# Altium schematic symbol library Schlib.SchLib: 11 symbols
Pins are listed as number, name and electrical type; pins without a type are passive.

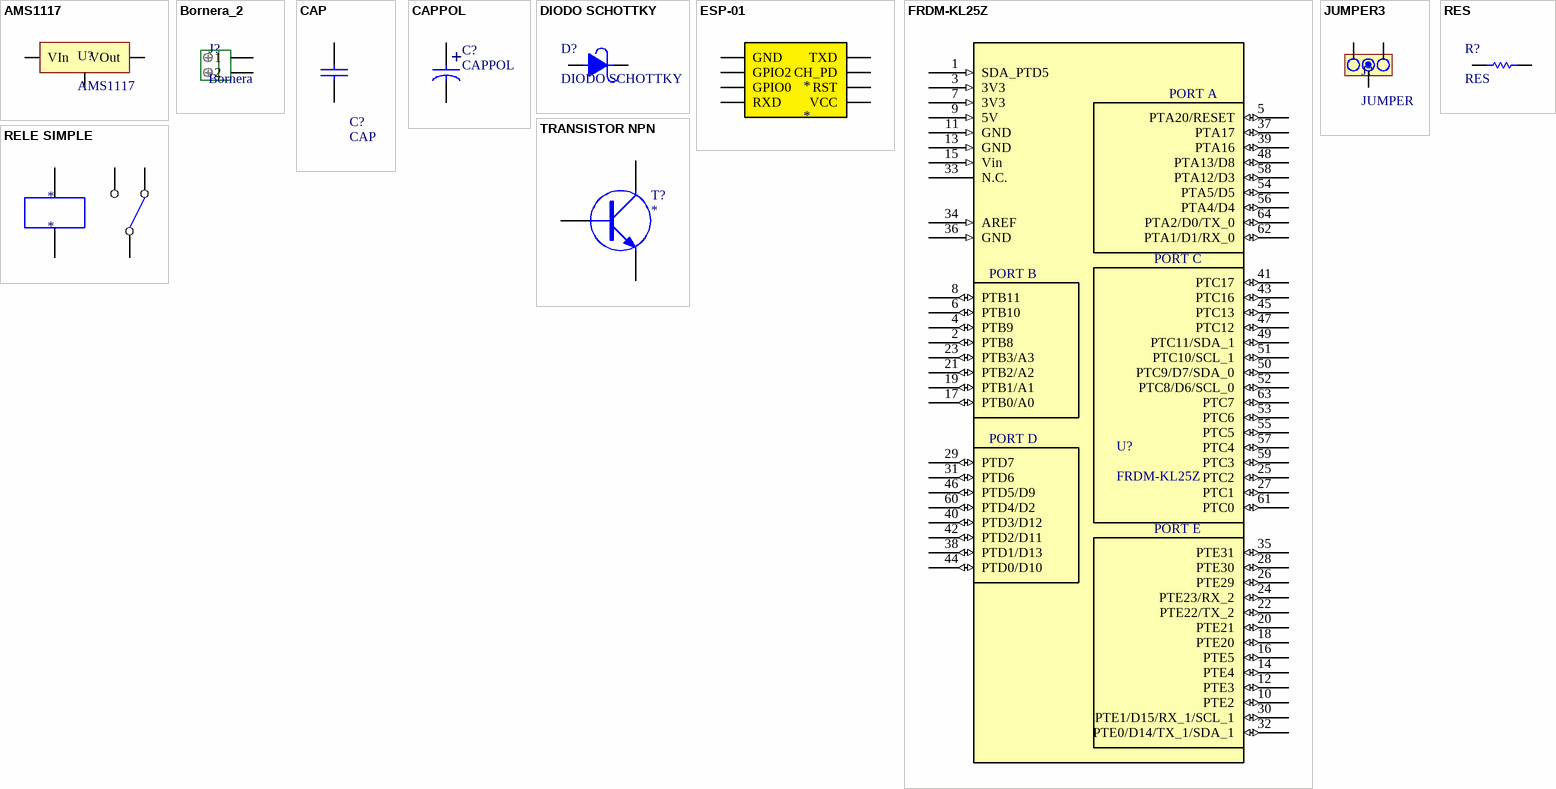
[diagram p0: symbols AMS1117 to TRANSISTOR NPN]

## AMS1117
designator U?
footprint AMS1117 (SOT223, 4-Leads, Body 6,50x7,00mm (avg), Pitch 2,30mm, IPC Medium Density)
pins: 1 VIn, 2 GND, 3 VOut

## Bornera_2
designator J?, comment Bornera
Bornera de 2 pines; Autor: Guido Spataro; Datasheet: Libebal; Fecha: 07/04/19
footprint BORNERA2 (Bornera con Tornillos 5mm separaci�n)
pins: 1, 2

## CAP
designator C?
Autor: Guido Spataro; Data: Libebal; Fecha: 07/04/19
footprint 0805 (Pasivo 0805)
footprint 1206 (Pasivo 1206)
pins: 1, 2

## CAPPOL
designator C?
Cap polarizado
footprint CAP100RP (Body diameter 5mm)
footprint CAP200RP2 (Body Diameter 12.5mm)
footprint CAP200RP2 HORIZONTAL (Body Diameter 12.5mm)
footprint Capol (Body diameter 6.5mm)
pins: 1, 2
text: +

## DIODO SCHOTTKY
designator D?
Diodo; Autor: Guido Spataro; DAta: https://assets.nexperia.com/documents/outline-drawing/SOD123.pdf; Fecha: 07/04/19
footprint Diodo (SODFL, 2-Leads, Body 1,60x3,60mm, IPC Medium Density)
pins: 1, 2

## ESP-01
designator *
footprint ESP-01
pins: 1 GND, 2 GPIO2, 3 GPIO0, 4 RXD, 5 TXD, 6 CH_PD, 7 RST, 8 VCC

## FRDM-KL25Z
designator U?
Autor: Guido Spataro; data: https://www.nxp.com/docs/en/data-sheet/MC9S08SH8.pdf; Fecha: 07/04/19
footprint MICRO
pins: 1 SDA_PTD5 (in), 2 PTB8 (io), 3 3V3 (in), 4 PTB9 (io), 5 PTA20/RESET (io), 6 PTB10 (io), 7 3V3 (in), 8 PTB11 (io), 9 5V (in), 10 PTE2 (io), 11 GND (in), 12 PTE3 (io), 13 GND (in), 14 PTE4 (io), 15 Vin (in), 16 PTE5 (io), 17 PTB0/A0 (io), 18 PTE20 (io), 19 PTB1/A1 (io), 20 PTE21 (io), 21 PTB2/A2 (io), 22 PTE22/TX_2 (io), 23 PTB3/A3 (io), 24 PTE23/RX_2 (io), 25 PTC2 (io), 26 PTE29 (io), 27 PTC1 (io), 28 PTE30 (io), 29 PTD7 (io), 30 PTE1/D15/RX_1/SCL_1 (io), 31 PTD6 (io), 32 PTE0/D14/TX_1/SDA_1 (io), 33 N.C. (oe), 34 AREF (in), 35 PTE31 (io), 36 GND (in), 37 PTA17 (io), 38 PTD1/D13 (io), 39 PTA16 (io), 40 PTD3/D12 (io), 41 PTC17 (io), 42 PTD2/D11 (io), 43 PTC16 (io), 44 PTD0/D10 (io), 45 PTC13 (io), 46 PTD5/D9 (io), 47 PTC12 (io), 48 PTA13/D8 (io), 49 PTC11/SDA_1 (io), 50 PTC9/D7/SDA_0 (io), 51 PTC10/SCL_1 (io), 52 PTC8/D6/SCL_0 (io), 53 PTC6 (io), 54 PTA5/D5 (io), 55 PTC5 (io), 56 PTA4/D4 (io), 57 PTC4 (io), 58 PTA12/D3 (io), 59 PTC3 (io), 60 PTD4/D2 (io), 61 PTC0 (io), 62 PTA1/D1/RX_0 (io), 63 PTC7 (io), 64 PTA2/D0/TX_0 (io)
text: PORT A; PORT C; PORT B; PORT D; PORT E

## JUMPER3
designator J?, comment JUMPER
footprint SIP3
pins: 1, 2, 3

## RELE SIMPLE
designator *
footprint RELE SERIE 943
footprint RELE SERIE 964
pins: B1, B2, C1, NA1, NC1

## RES
designator R?
Resistencia; Autor: Guido Spataro; Data: Libebal; Fecha: 07/04/19
footprint 0805 (Pasivo 0805)
footprint 1206 (Pasivo 1206)
pins: 1, 2

## TRANSISTOR NPN
designator T?
footprint SOT23
pins: 1 B, 2 C, 3 E